# Altium footprint library Q22FA12800120.PCBLIB: 1 footprints
Each footprint in its own frame and in the unit in brackets; x right, y up, seen from the top. Pads: shape width x height; smd on the part's side, far side on the other; paste and mask are expansions set on the pad; w line width, h text height; cw(c..) or ccw(c..) is an arc to the next point about the centre after c.
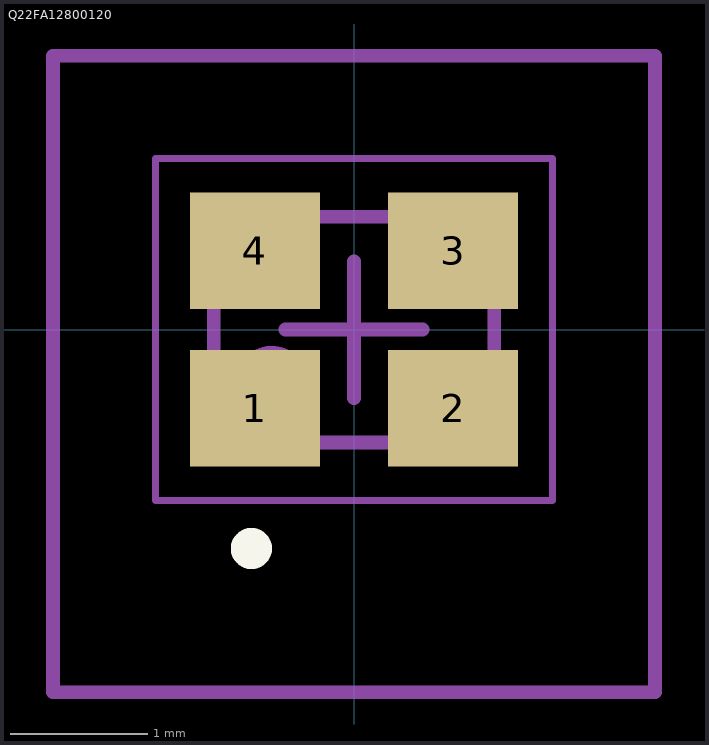
[diagram p0: the footprint, top view; thin cyan lines are the x and y axes]

## Q22FA12800120 [mm]
pads (4):
  rect 0.95x0.85 smd: 1(-0.725,-0.575) 2(0.725,-0.575) 3(0.725,0.575) 4(-0.725,0.575)
Top Overlay:
  lines w0.2: -0.8,-1.6 ccw(c-0.75,-1.6) -0.7,-1.6 ; -0.8,-1.6 cw(c-0.75,-1.6) -0.7,-1.6 ; -0.8,-1.6 ccw(c-0.75,-1.6) -0.7,-1.6
Top Assembly:
  circle w0.28: c-0.6,-0.4 r0.14
  lines w0.1: -1.025,0.825 1.025,0.825 1.025,-0.825 ; -1.025,0.825 -1.025,0.825 ; -1.025,0.825 -1.025,-0.825 1.025,-0.825 ; 1.025,-0.825 1.025,-0.825
Bottom Assembly:
  lines w0.1: -2.2,-2.65 -2.2,2 2.2,2 2.2,-2.65 -2.2,-2.65
Top Courtyard:
  lines w0.05: -1.45,-1.25 -1.45,1.25 1.45,1.25 1.45,-1.25 -1.45,-1.25
Top Designator:
  text ".Designator" at -0.4,1.3 h0.76
Top Component Center:
  lines w0.1: -0.5,0 0.5,0 ; 0,-0.5 0,0.5
3D body: height 0.8, standoff 0, extent -1.025,-0.825 1.025,0.825
3D body: height 0.81, standoff 0, extent -0.8,-0.6 -0.4,-0.2